# Altium schematic symbol library SOT_23_Monitors_Reset.SchLib: 1 symbol
Pins are listed as number, name and electrical type; pins without a type are passive.

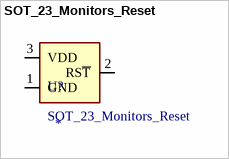
[diagram p0: symbol SOT_23_Monitors_Reset]

## SOT_23_Monitors_Reset
designator U?
SOT-23 Monitors & Reset Circuits ROHS; LCSC: *
footprint SOT_23_Monitors_Reset
pins: 1 GND, 2 RS~{T}, 3 VDD